# EAGLE library part EC2*S (library K-RELAY)
EC2-24S [KEMET,EC2-24SNU] RELAY DPDT 2A@220DC 24VCOIL LATCHING
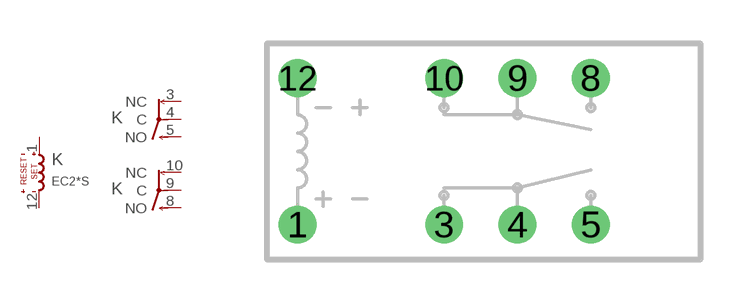
[diagram p3: symbol with the pads of EC2; footprint EC2]

Designator prefix K; gates G$1=K+-S-R+ G$2=1C G$3=1C

## EC2S  [EC2]
1  G$1:+SET  pas
3  G$2:NC  pas
4  G$2:C  pas
5  G$2:NO  pas
8  G$3:NO  pas
9  G$3:C  pas
10  G$3:NC  pas
12  G$1:-SET  pas

## Footprint EC2 (pad centres in mm)
EC2 (NEC/KEMET) EC2-24S [KEMET,EC2-24SNU] RELAY DPDT 2A@220DC 24VCOIL LATCHING
drill 0.8: 1 0,-2.54; 3 5.08,-2.54; 4 7.62,-2.54; 5 10.16,-2.54; 8 10.16,2.54; 9 7.62,2.54; 10 5.08,2.54; 12 0,2.54